# EAGLE library part SAMD09C13A (library SyncChannelCustom)
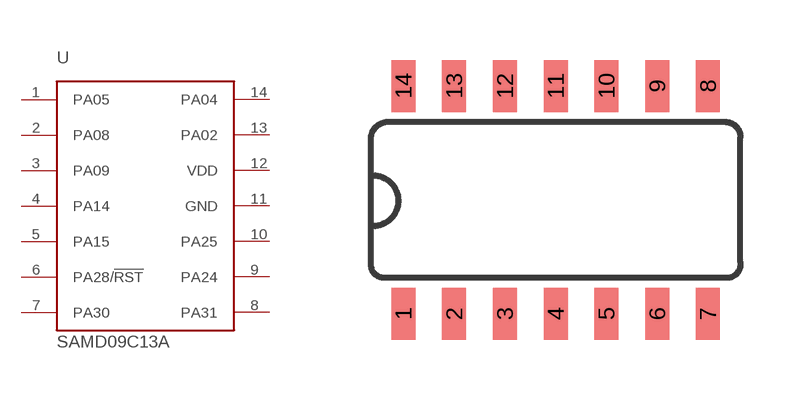
[diagram p9: symbol with the pads of SO14-NARROWPADS; footprint SO14-NARROWPADS]

Designator prefix U

## SAMD09C13A  [SO14-NARROWPADS]
1  PA05
2  PA08
3  PA09
4  PA14
5  PA15
6  PA28/!RST
7  PA30
8  PA31
9  PA24
10  PA25
11  GND
12  VDD
13  PA02
14  PA04

## Footprint SO14-NARROWPADS (pad centres in mm)
smd 0.6 x 1.3: 1 -3.81,-2.85; 2 -2.54,-2.85; 3 -1.27,-2.85; 4 0,-2.85; 5 1.27,-2.85; 6 2.54,-2.85; 7 3.81,-2.85; 8 3.81,2.85; 9 2.54,2.85; 10 1.27,2.85; 11 0,2.85; 12 -1.27,2.85; 13 -2.54,2.85; 14 -3.81,2.85